# EAGLE library part NOR25 (library balto)
Series 25 NOR Flash (IS25, MX25 etc...)
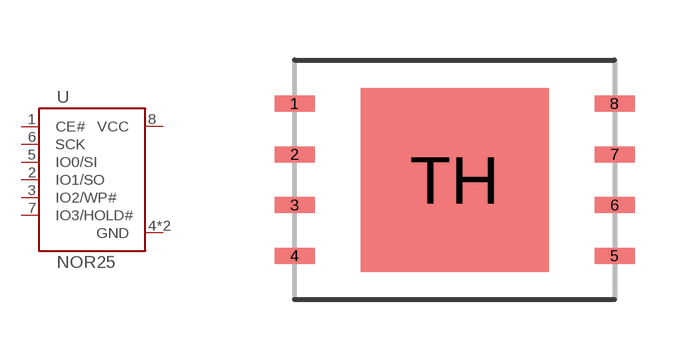
[diagram p63: symbol with the pads of WSON8_8X6; footprint WSON8_8X6]

Designator prefix U

## NOR25-WSON8-8X6  [WSON8_8X6]
1  CE#
2  IO1/SO
3  IO2/WP#
4  GND
5  IO0/SI
6  SCK
7  IO3/HOLD#
8  VCC
TH  GND

## Footprint WSON8_8X6 (pad centres in mm)
WSON8 8x6mm
smd 1 x 0.4: 1 -4,1.905; 2 -4,0.635; 3 -4,-0.635; 4 -4,-1.905; 5 4,-1.905; 6 4,-0.635; 7 4,0.635; 8 4,1.905
smd 4.7 x 4.6: TH 0,0